# Altium schematic symbol library Regulador de tensão.SchLib: 1 symbol
Pins are listed as number, name and electrical type; pins without a type are passive.

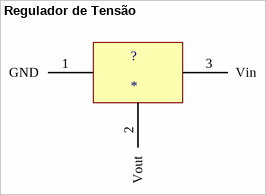
[diagram p0: symbol Regulador de Tensão]

## Regulador de Tensão
designator ?
800mA Regulador de Tensão de saída baixa; Manufacturer: Diodes Incorporated; Manufacturer Part Number: AZ1117EH-3.3TRG1; Description: IC REG LINEAR 3.3V 1A SOT223; Detailed Description: Linear Voltage Regulator IC Positive Fixed 1 Output  1A SOT-223; Digi-Key Part Number: AZ1117EH-3.3TRG1DICT-ND; ComponentLink1Description: Datasheet; ComponentLink1URL: https://www.diodes.com/assets/Datasheets/AZ1117E.pdf
footprint REGULADOR DE TENSÃO (IC REG LINEAR 3.3V 1A SOT223)
pins: 1 GND, 2 Vout, 3 Vin